# Altium footprint library H-Watch.PcbLib: 8 footprints
Each footprint in its own frame and in the unit in brackets; x right, y up, seen from the top. Pads: shape width x height; smd on the part's side, far side on the other; paste and mask are expansions set on the pad; w line width, h text height; cw(c..) or ccw(c..) is an arc to the next point about the centre after c.
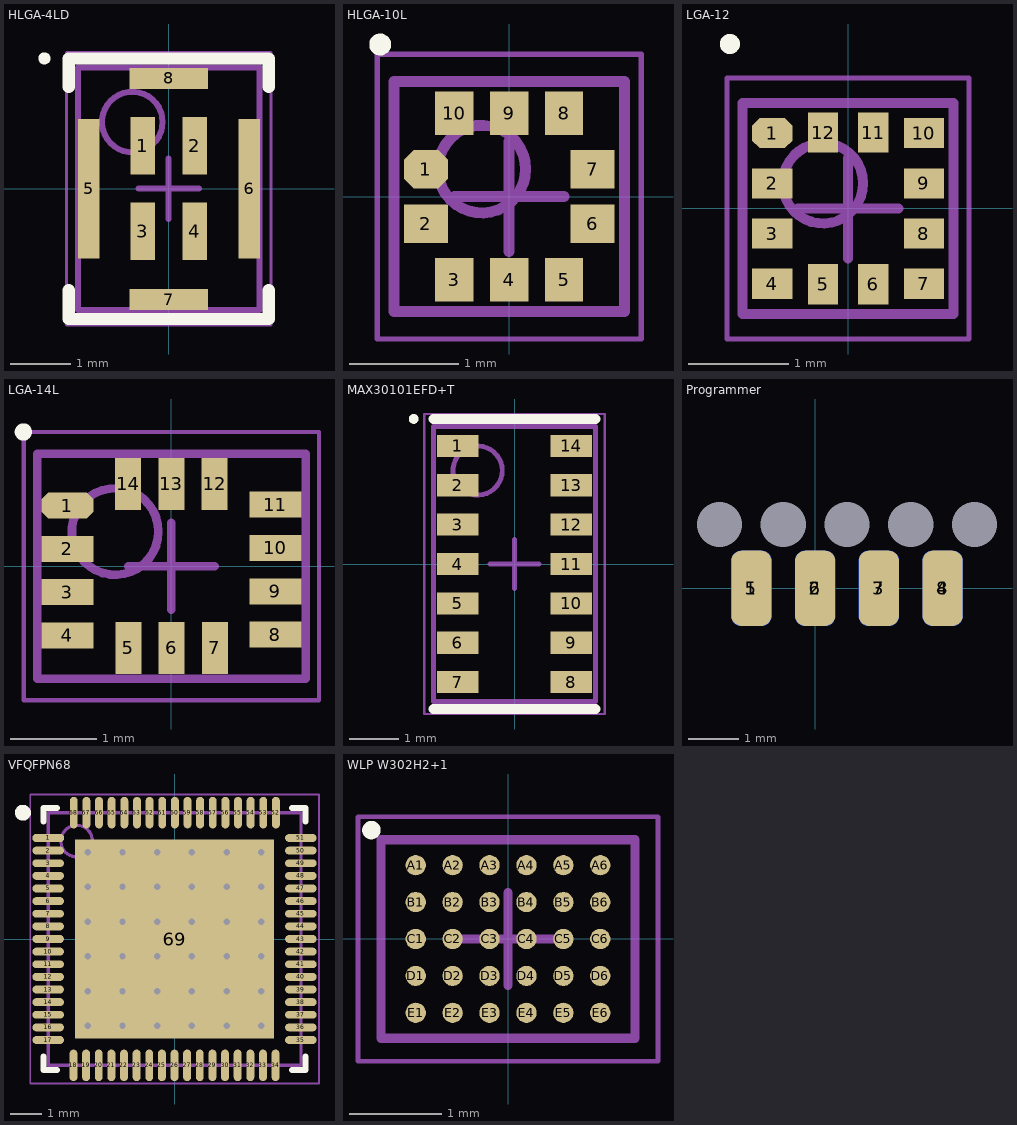
[diagram p0: the footprints below, top view; thin cyan lines are the x and y axes]

## HLGA-4LD [mm] "3x4x1mm"
height 1.3
pads (8):
  rect 0.4x0.95 smd: 1(-0.43,0.71) 2(0.43,0.71) 3(-0.43,-0.7) 4(0.43,-0.7)
  rect 0.35x2.3 smd: 5(-1.32,0) 6(1.33,0)
  rect 1.3x0.35 smd: 7(0,-1.83) 8(0,1.82)
Top Overlay:
  circle w0.1: c-2.05,2.15 r0.05
  lines w0.2: -1.65,-1.675 -1.65,-2.15 1.65,-2.15 1.65,-1.675 ; -1.65,1.675 -1.65,2.15 1.65,2.15 1.65,1.675
Mechanical 13:
  circle w0.1: c-0.6,1.1 r0.5
  lines w0.1: -1.5,-2 -1.5,2 1.5,2 1.5,-2 -1.5,-2
Mechanical 15:
  lines w0.05: -1.685,-2.25 -1.685,2.25 1.685,2.25 1.685,-2.25 -1.685,-2.25
  lines w0.1: -0.5,0 0.5,0 ; 0,-0.5 0,0.5
3D body "HLGA-4LD.step": height 1.3, standoff 0, extent -1.501,-2 1.501,2

## HLGA-10L [mm] "HLGA-10L 2.0 x 2.0 x 0.76 mm"
height 0.9
pads (10):
  oct 0.4x0.35 smd: 1(-0.76,0.25)
  rect 0.4x0.35 smd: 2(-0.76,-0.25) 6(0.76,-0.25) 7(0.76,0.25)
  rect 0.35x0.4 smd: 3(-0.5,-0.76) 4(0,-0.76) 5(0.5,-0.76) 8(0.5,0.76) 9(0,0.76) 10(-0.5,0.76)
Top Overlay:
  circle w0.1: c-1.177,1.387 r0.05
Mechanical 13:
  circle w0.1: c-0.25,0.25 r0.4
  lines w0.1: -1.05,-1.05 -1.05,1.05 1.05,1.05 1.05,-1.05 -1.05,-1.05
Mechanical 15:
  lines w0.05: -1.205,-1.3 -1.205,1.3 1.205,1.3 1.205,-1.3 -1.205,-1.3
  lines w0.1: -0.5,0 0.5,0 ; 0,-0.5 0,0.5
3D body "HLGA-10L.step": height 0.9, standoff 0, extent -1.051,-1.125 1.051,1.125

## LGA-12 [mm] "LGA-12 2x2x1 mm"
height 0.9
pads (12):
  oct 0.4x0.3 smd: 1(-0.755,0.75)
  rect 0.4x0.3 smd: 2(-0.755,0.25) 3(-0.755,-0.25) 4(-0.755,-0.75) 7(0.755,-0.75) 8(0.755,-0.25) 9(0.755,0.25) 10(0.755,0.75)
  rect 0.3x0.4 smd: 5(-0.25,-0.755) 6(0.25,-0.755) 11(0.25,0.755) 12(-0.25,0.755)
Top Overlay:
  circle w0.1: c-1.177,1.637 r0.05
Mechanical 13:
  circle w0.1: c-0.25,0.25 r0.4
  lines w0.1: -1.05,-1.05 1.05,-1.05 1.05,1.05 -1.05,1.05 -1.05,-1.05
Mechanical 15:
  lines w0.05: -1.205,-1.3 1.205,-1.3 1.205,1.3 -1.205,1.3 -1.205,-1.3
  lines w0.1: -0.5,0 0.5,0 ; 0,-0.5 0,0.5
3D body "LGA-12.step": height 0.9, standoff 0, extent -1.051,-1.375 1.051,1.375

## LGA-14L [mm] "LGA-14L 2.5x3x0.86"
height 0.9
pads (14):
  oct 0.6x0.3 smd: 1(-1.2,0.7)
  rect 0.6x0.3 smd: 2(-1.2,0.2) 3(-1.2,-0.3) 4(-1.2,-0.8) 8(1.2,-0.79) 9(1.2,-0.29) 10(1.2,0.21) 11(1.2,0.71)
  rect 0.3x0.6 smd: 5(-0.497,-0.943) 6(0.003,-0.943) 7(0.503,-0.943) 12(0.5,0.95) 13(0,0.95) 14(-0.5,0.95)
Top Overlay:
  circle w0.1: c-1.71,1.55 r0.05
Mechanical 13:
  circle w0.1: c-0.65,0.4 r0.5
  lines w0.1: -1.55,-1.3 -1.55,1.3 1.55,1.3 1.55,-1.3 -1.55,-1.3
Mechanical 15:
  lines w0.05: -1.705,-1.55 -1.705,1.55 1.705,1.55 1.705,-1.55 -1.705,-1.55
  lines w0.1: -0.5,0 0.5,0 ; 0,-0.5 0,0.5
3D body "LGA-14L.step": height 0.9, standoff 0, extent -1.551,-1.625 1.551,1.625

## MAX30101EFD+T [mm]
height 1.3
pads (14):
  rect 0.85x0.45 smd: 1(-1.155,2.4) 2(-1.155,1.6) 3(-1.155,0.8) 4(-1.155,0) 5(-1.155,-0.8) 6(-1.155,-1.6) 7(-1.155,-2.4) 8(1.155,-2.4) 9(1.155,-1.6) 10(1.155,-0.8) 11(1.155,0) 12(1.155,0.8) 13(1.155,1.6) 14(1.155,2.4)
Top Overlay:
  circle w0.1: c-2.05,2.95 r0.05
  lines w0.2: -1.65,-2.95 1.65,-2.95 ; -1.65,2.95 1.65,2.95
Mechanical 13:
  circle w0.1: c-0.75,1.9 r0.5
  lines w0.1: -1.65,-2.8 -1.65,2.8 1.65,2.8 1.65,-2.8 -1.65,-2.8
Mechanical 15:
  lines w0.05: -1.835,-3.05 -1.835,3.05 1.835,3.05 1.835,-3.05 -1.835,-3.05
  lines w0.1: -0.5,0 0.5,0 ; 0,-0.5 0,0.5
3D body "MAX30101EFD+T.step": height 2.3, standoff 0, extent -1.651,-2.8 1.651,2.8

## Programmer [mm]
pads (13):
  rrect50% 0.8x1.5 smd: 1(-1.27,0) 2(0,0) 3(1.27,0) 4(2.54,0)
  rrect50% 0.8x1.5 smd far side: 5(-1.27,0) 6(0,0) 7(1.27,0) 8(2.54,0)
  round 0 hole 0.9: ""(-1.905,1.27) ""(-0.635,1.27) ""(0.635,1.27) ""(1.905,1.27) ""(3.175,1.27)
Top Overlay:
  text "." at -2.921,0.254 h1.52
Bottom Overlay:
  text "." at -2.921,0.254 h1.52

## VFQFPN68 [mm] "VFQFPN, 68-Leads, Body 8.00x8.00mm, Pitch 0.40mm, Thermal Pad 6.30x6.30mm, IPC Medium Density"
height 0.9
pads (69):
  oct 1x0.25 smd: 1(-4,3.2)
  oval 1x0.25 smd: 2(-4,2.8) 3(-4,2.4) 4(-4,2) 5(-4,1.6) 6(-4,1.2) 7(-4,0.8) 8(-4,0.4) 9(-4,0) 10(-4,-0.4) 11(-4,-0.8) 12(-4,-1.2) 13(-4,-1.6) 14(-4,-2) 15(-4,-2.4) 16(-4,-2.8) 17(-4,-3.2) 35(4,-3.2) 36(4,-2.8) 37(4,-2.4) 38(4,-2) 39(4,-1.6) 40(4,-1.2) 41(4,-0.8) 42(4,-0.4) 43(4,0) 44(4,0.4) 45(4,0.8) 46(4,1.2) 47(4,1.6) 48(4,2) 49(4,2.4) 50(4,2.8) 51(4,3.2)
  oval 0.25x1 smd: 18(-3.2,-4) 19(-2.8,-4) 20(-2.4,-4) 21(-2,-4) 22(-1.6,-4) 23(-1.2,-4) 24(-0.8,-4) 25(-0.4,-4) 26(0,-4) 27(0.4,-4) 28(0.8,-4) 29(1.2,-4) 30(1.6,-4) 31(2,-4) 32(2.4,-4) 33(2.8,-4) 34(3.2,-4) 52(3.21,4) 53(2.81,4) 54(2.41,4) 55(2.01,4) 56(1.61,4) 57(1.21,4) 58(0.81,4) 59(0.41,4) 60(0.01,4) 61(-0.39,4) 62(-0.79,4) 63(-1.19,4) 64(-1.59,4) 65(-1.99,4) 66(-2.39,4) 67(-2.79,4) 68(-3.19,4)
  rect 6.3x6.3 smd: 69(0,0)
via 2.75,-2.75 diameter 0.5 hole 0.2
via 1.65,-2.75 diameter 0.5 hole 0.2
via 0.55,-2.75 diameter 0.5 hole 0.2
via -0.55,-2.75 diameter 0.5 hole 0.2
via -1.65,-2.75 diameter 0.5 hole 0.2
via -2.75,-2.75 diameter 0.5 hole 0.2
via 2.75,-1.65 diameter 0.5 hole 0.2
via 1.65,-1.65 diameter 0.5 hole 0.2
via 0.55,-1.65 diameter 0.5 hole 0.2
via -0.55,-1.65 diameter 0.5 hole 0.2
via -1.65,-1.65 diameter 0.5 hole 0.2
via -2.75,-1.65 diameter 0.5 hole 0.2
via 2.75,-0.55 diameter 0.5 hole 0.2
via 1.65,-0.55 diameter 0.5 hole 0.2
via 0.55,-0.55 diameter 0.5 hole 0.2
via -0.55,-0.55 diameter 0.5 hole 0.2
via -1.65,-0.55 diameter 0.5 hole 0.2
via -2.75,-0.55 diameter 0.5 hole 0.2
via 2.75,0.55 diameter 0.5 hole 0.2
via 1.65,0.55 diameter 0.5 hole 0.2
via 0.55,0.55 diameter 0.5 hole 0.2
via -0.55,0.55 diameter 0.5 hole 0.2
via -1.65,0.55 diameter 0.5 hole 0.2
via -2.75,0.55 diameter 0.5 hole 0.2
via 2.75,1.65 diameter 0.5 hole 0.2
via 1.65,1.65 diameter 0.5 hole 0.2
via 0.55,1.65 diameter 0.5 hole 0.2
via -0.55,1.65 diameter 0.5 hole 0.2
via -1.65,1.65 diameter 0.5 hole 0.2
via -2.75,1.65 diameter 0.5 hole 0.2
via 2.75,2.75 diameter 0.5 hole 0.2
via 1.65,2.75 diameter 0.5 hole 0.2
via 0.55,2.75 diameter 0.5 hole 0.2
via -0.55,2.75 diameter 0.5 hole 0.2
via -1.65,2.75 diameter 0.5 hole 0.2
via -2.75,2.75 diameter 0.5 hole 0.2
Top Overlay:
  circle w0.25: c-4.8,4 r0.125
  lines w0.2: -4.15,-3.725 -4.15,-4.15 -3.725,-4.15 ; -4.15,3.725 -4.15,4.15 -3.725,4.15 ; 3.725,-4.15 4.15,-4.15 4.15,-3.725 ; 3.725,4.15 4.15,4.15 4.15,3.725
Mechanical 13:
  circle w0.1: c-3.1,3.1 r0.5
  lines w0.1: -4,-4 4,-4 4,4 -4,4 -4,-4
Mechanical 15:
  lines w0.05: -4.575,-4.575 4.575,-4.575 4.575,4.575 -4.575,4.575 -4.575,-4.575
  lines w0.1: -0.5,0 0.5,0 ; 0,-0.5 0,0.5
3D body "VFQFPN68.step": height 0.9, standoff 0, extent -4.01,-4.01 4.01,4.01

## WLP W302H2+1 [mm] "PACKAGE OUTLINE 30 BUMPS WLP PKG. 0.4 mm PITCH, W302H2+1"
height 0.6
pads (30):
  round 0.22 smd: A1(-1,0.8) A2(-0.6,0.8) A3(-0.2,0.8) A4(0.2,0.8) A5(0.6,0.8) A6(1,0.8) B1(-1,0.4) B2(-0.6,0.4) B3(-0.2,0.4) B4(0.2,0.4) B5(0.6,0.4) B6(1,0.4) C1(-1,0) C2(-0.6,0) C3(-0.2,0) C4(0.2,0) C5(0.6,0) C6(1,0) D1(-1,-0.4) D2(-0.6,-0.4) D3(-0.2,-0.4) D4(0.2,-0.4) D5(0.6,-0.4) D6(1,-0.4) E1(-1,-0.8) E2(-0.6,-0.8) E3(-0.2,-0.8) E4(0.2,-0.8) E5(0.6,-0.8) E6(1,-0.8)
Top Overlay:
  circle w0.1: c-1.48,1.18 r0.05
Mechanical 13:
  lines w0.1: -1.375,-1.075 -1.375,1.075 1.375,1.075 1.375,-1.075 -1.375,-1.075
Mechanical 15:
  lines w0.05: -1.625,-1.325 -1.625,1.325 1.625,1.325 1.625,-1.325 -1.625,-1.325
  lines w0.1: -0.5,0 0.5,0 ; 0,-0.5 0,0.5
3D body "WLP W302H2+1.step": height 0.6, standoff 0, extent -1.375,-1.075 1.375,1.075